# EAGLE library part A3940 (library allegro)
Full-Bridge Power MOSFET Controller Automotive application full-bridge, drives a wide range of external FETs. Temp range -40 to 135 C
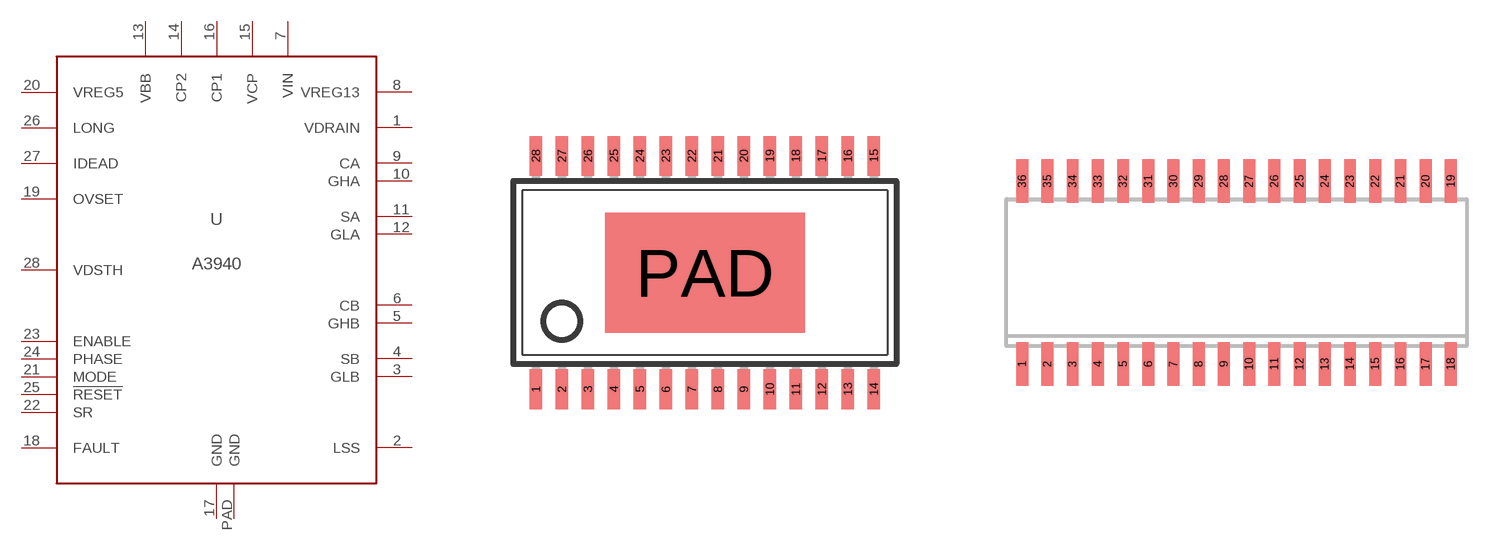
[diagram p13: symbol with the pads of TSSOP28-PAD; footprints TSSOP28-PAD, SO36W]

Designator prefix U

## A3940KLP  [TSSOP28-PAD]
1  VDRAIN  pwr
2  LSS  pwr
3  GLB  out
4  SB  out
5  GHB  out
6  CB  out
7  VIN  pwr
8  VREG13  out
9  CA  out
10  GHA  out
11  SA  out
12  GLA  out
13  VBB  pwr
14  CP2
15  VCP
16  CP1
17  GND  pwr
18  FAULT  oc
19  OVSET  in
20  VREG5  pwr
21  MODE  in
22  SR  in
23  ENABLE  in
24  PHASE  in
25  !RESET  in
26  LONG  in
27  IDEAD  in
28  VDSTH  in
PAD  GND  pwr

## A3940KLW  [SO36W]
1  VDRAIN  pwr
2  LSS  pwr
3  GLB  out
4  SB  out
5  GHB  out
6  CB  out
7  VIN  pwr
8  VREG13  out
9  CA  out
10  GHA  out
11  SA  out
12  GLA  out
13  VBB  pwr
14  CP2
15  VCP
16  CP1
17  GND  pwr
18  FAULT  oc
19  OVSET  in
20  VREG5  pwr
21  MODE  in
22  SR  in
23  ENABLE  in
24  PHASE  in
25  !RESET  in
26  LONG  in
27  IDEAD  in
28  VDSTH  in

## Footprint TSSOP28-PAD (pad centres in mm)
28-pin Thin Shrink Small Outline Package with Exposed Thermal Pad
smd 0.305 x 0.991: 1 -4.225,-2.918; 2 -3.575,-2.918; 3 -2.925,-2.918; 4 -2.275,-2.918; 5 -1.625,-2.918; 6 -0.975,-2.918; 7 -0.325,-2.918; 8 0.325,-2.918; 9 0.975,-2.918; 10 1.625,-2.918; 11 2.275,-2.918; 12 2.925,-2.918; 13 3.575,-2.918; 14 4.225,-2.918; 15 4.225,2.918; 16 3.575,2.918; 17 2.925,2.918; 18 2.275,2.918; 19 1.625,2.918; 20 0.975,2.918; 21 0.325,2.918; 22 -0.325,2.918; 23 -0.975,2.918; 24 -1.625,2.918; 25 -2.275,2.918; 26 -2.925,2.918; 27 -3.575,2.918; 28 -4.225,2.918
smd 5 x 3: PAD 0,0

## Footprint SO36W (pad centres in mm)
36-pin Small Outline Package
smd 0.6 x 2.2: 1 -10.795,-4.6; 2 -9.525,-4.6; 3 -8.255,-4.6; 4 -6.985,-4.6; 5 -5.715,-4.6; 6 -4.445,-4.6; 7 -3.175,-4.6; 8 -1.905,-4.6; 9 -0.635,-4.6; 10 0.635,-4.6; 11 1.905,-4.6; 12 3.175,-4.6; 13 4.445,-4.6; 14 5.715,-4.6; 15 6.985,-4.6; 16 8.255,-4.6; 17 9.525,-4.6; 18 10.795,-4.6; 19 10.795,4.6; 20 9.525,4.6; 21 8.255,4.6; 22 6.985,4.6; 23 5.715,4.6; 24 4.445,4.6; 25 3.175,4.6; 26 1.905,4.6; 27 0.635,4.6; 28 -0.635,4.6; 29 -1.905,4.6; 30 -3.175,4.6; 31 -4.445,4.6; 32 -5.715,4.6; 33 -6.985,4.6; 34 -8.255,4.6; 35 -9.525,4.6; 36 -10.795,4.6